# Altium schematic symbol library Lars.SchLib: 9 symbols
Pins are listed as number, name and electrical type; pins without a type are passive.

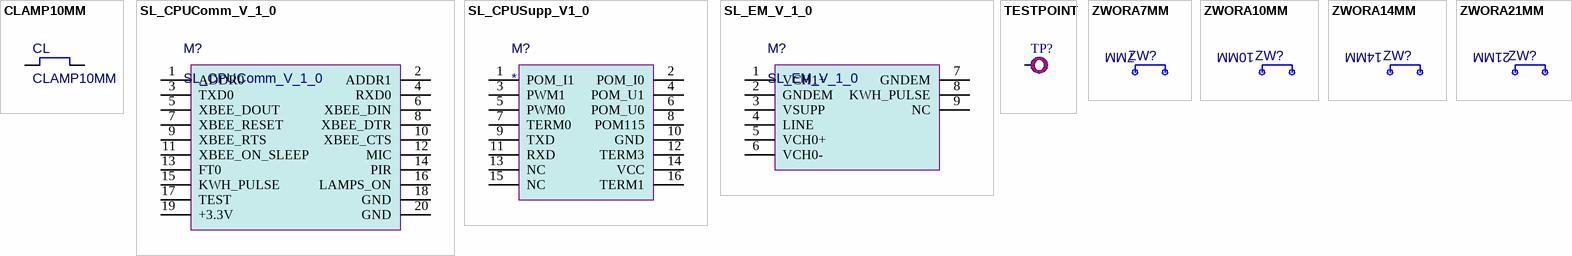
[diagram p0: symbols CLAMP10MM to ZWORA21MM]

## CLAMP10MM
designator CL  (no BOM)
Value: CLAMP10MM
pins: 1, 2

## SL_CPUComm_V_1_0
designator M?
Value: SL_CPUComm_V_1_0
pins: 1 ADDR0, 2 ADDR1, 3 TXD0, 4 RXD0, 5 XBEE_DOUT, 6 XBEE_DIN, 7 XBEE_RESET, 8 XBEE_DTR, 9 XBEE_RTS, 10 XBEE_CTS, 11 XBEE_ON_SLEEP, 12 MIC, 13 FT0, 14 PIR, 15 KWH_PULSE, 16 LAMPS_ON, 17 TEST, 18 GND, 19 +3.3V, 20 GND

## SL_CPUSupp_V1_0
designator M?
Value: SL_CPUSupp_V1_0
pins: 1 POM_I1, 2 POM_I0, 3 PWM1, 4 POM_U1, 5 PWM0, 6 POM_U0, 7 TERM0, 8 POM115, 9 TXD, 10 GND, 11 RXD, 12 TERM3, 13 NC, 14 VCC, 15 NC, 16 TERM1

## SL_EM_V_1_0
designator M?
Value: SL_EM_V_1_0
pins: 1 VCH1+, 2 GNDEM, 3 VSUPP, 4 LINE, 5 VCH0+, 6 VCH0-, 7 GNDEM, 8 KWH_PULSE, 9 NC

## TESTPOINT
designator TP?
pins: 1

## ZWORA7MM
designator ZW?  (value not drawn)
Value: ZWORA7MM
text: 7MM

## ZWORA10MM
designator ZW?  (value not drawn)
Value: ZWORA10MM
text: 10MM

## ZWORA14MM
designator ZW?  (value not drawn)
Value: ZWORA14MM
text: 14MM

## ZWORA21MM
designator ZW?  (value not drawn)
Value: ZWORA21MM
text: 21MM